# Altium footprint library KF301.PcbLib: 1 footprints
Each footprint in its own frame and in the unit in brackets; x right, y up, seen from the top. Pads: shape width x height; smd on the part's side, far side on the other; paste and mask are expansions set on the pad; w line width, h text height; cw(c..) or ccw(c..) is an arc to the next point about the centre after c.
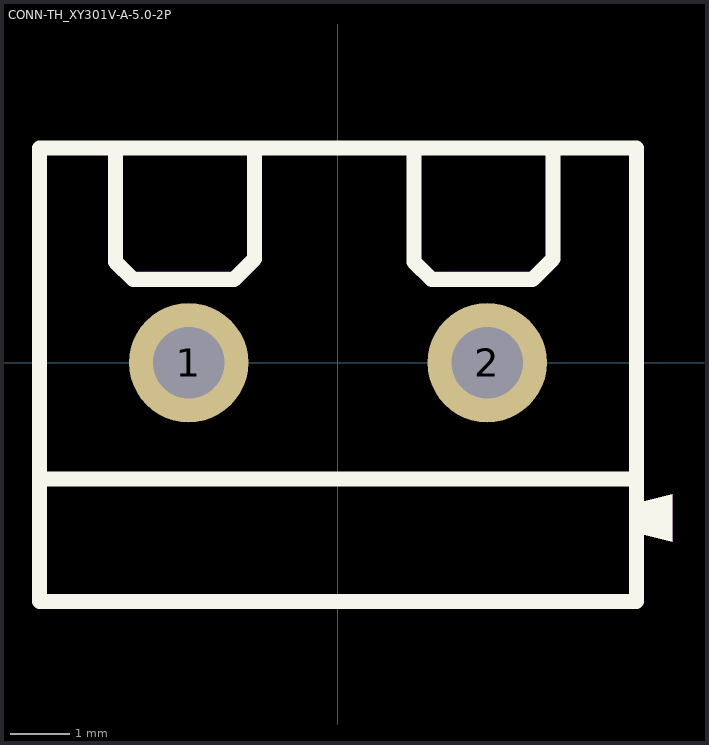
[diagram p0: the footprint, top view; thin cyan lines are the x and y axes]

## CONN-TH_XY301V-A-5.0-2P [mm]
pads (2):
  round 2 hole 1.2: 1(-2.5,0) 2(2.5,0)
Top Overlay:
  region: 5,-2.35 5.6,-2.2 5.6,-3 5,-2.85
  lines w0.254: -5,-1.947 5,-1.947 ; -3.723,3.599 -3.723,1.689 -3.428,1.397 -1.739,1.397 -1.396,1.737 -1.396,3.599 ; 1.277,3.599 1.277,1.689 1.572,1.397 3.261,1.397 3.604,1.737 3.604,3.599 ; -5,-4 5,-4 5,3.6 -5,3.6 -5,-4
Mechanical 6:
  region: -3.77,3.683 -3.77,1.651 -3.516,1.397 -1.611,1.397 -1.357,1.651 -1.357,3.683 -1.484,3.683 -1.484,1.778 -1.738,1.524 -3.389,1.524 -3.643,1.778 -3.643,3.683
  region: 1.23,3.683 1.23,1.651 1.484,1.397 3.389,1.397 3.643,1.651 3.643,3.683 3.516,3.683 3.516,1.778 3.262,1.524 1.611,1.524 1.357,1.778 1.357,3.683
  region: 5,-2.35 5.6,-2.2 5.6,-3 5,-2.85
Mechanical 15:
  region: -4.94,-4 -4.94,-3.975 -4.975,-3.94 -5.025,-3.94 -5.06,-3.975 -5.06,-4 -5.06,-4.025 -5.025,-4.06 -4.975,-4.06 -4.94,-4.025 -4.94,-4
  region: -2,0 -2,0.099 -2.076,0.283 -2.217,0.424 -2.401,0.5 -2.6,0.5 -2.783,0.424 -2.924,0.283 -3,0.099 -3,0 -3,-0.1 -2.924,-0.283 -2.783,-0.424 -2.599,-0.5 -2.401,-0.5 -2.217,-0.424 -2.076,-0.283 -2,-0.099 -2,0
  region: 3,0 3,0.099 2.924,0.283 2.783,0.424 2.599,0.5 2.4,0.5 2.217,0.424 2.076,0.283 2,0.099 2,0 2,-0.1 2.076,-0.283 2.217,-0.424 2.401,-0.5 2.599,-0.5 2.783,-0.424 2.924,-0.283 3,-0.099 3,0
  lines w0.051: -5,-4 -5,3.6 5,3.6 5,-4 -5,-4
3D body "KF301.STEP": height 10.22, standoff -4.08, extent -5.078,-3.872 5.522,3.728